# Altium schematic symbol library Conn,USB_C.Schlib: 1 symbol
Pins are listed as number, name and electrical type; pins without a type are passive.

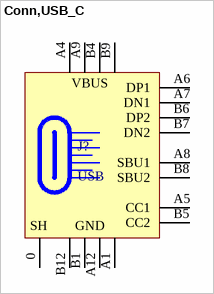
[diagram p0: symbol Conn,USB_C]

## Conn,USB_C
designator J?, comment USB
CONN RCPT USB2.0 TYPEC 16POS
pins: 0 SHIELD, A1 GND, A4 VBUS, A5 CC1, A6 DP1, A7 DN1, A8 SBU1, A9 VBUS, A12 GND, B1 GND, B4 VBUS, B5 CC2, B6 DP2, B7 DN2, B8 SBU2, B9 VBUS, B12 GND
text: SH